# Altium footprint library alientek_sch_lib.PcbLib: 370 footprints (part 11 of 24)
Each footprint in its own frame and in the unit in brackets; x right, y up, seen from the top. Pads: shape width x height; smd on the part's side, far side on the other; paste and mask are expansions set on the pad; w line width, h text height; cw(c..) or ccw(c..) is an arc to the next point about the centre after c.
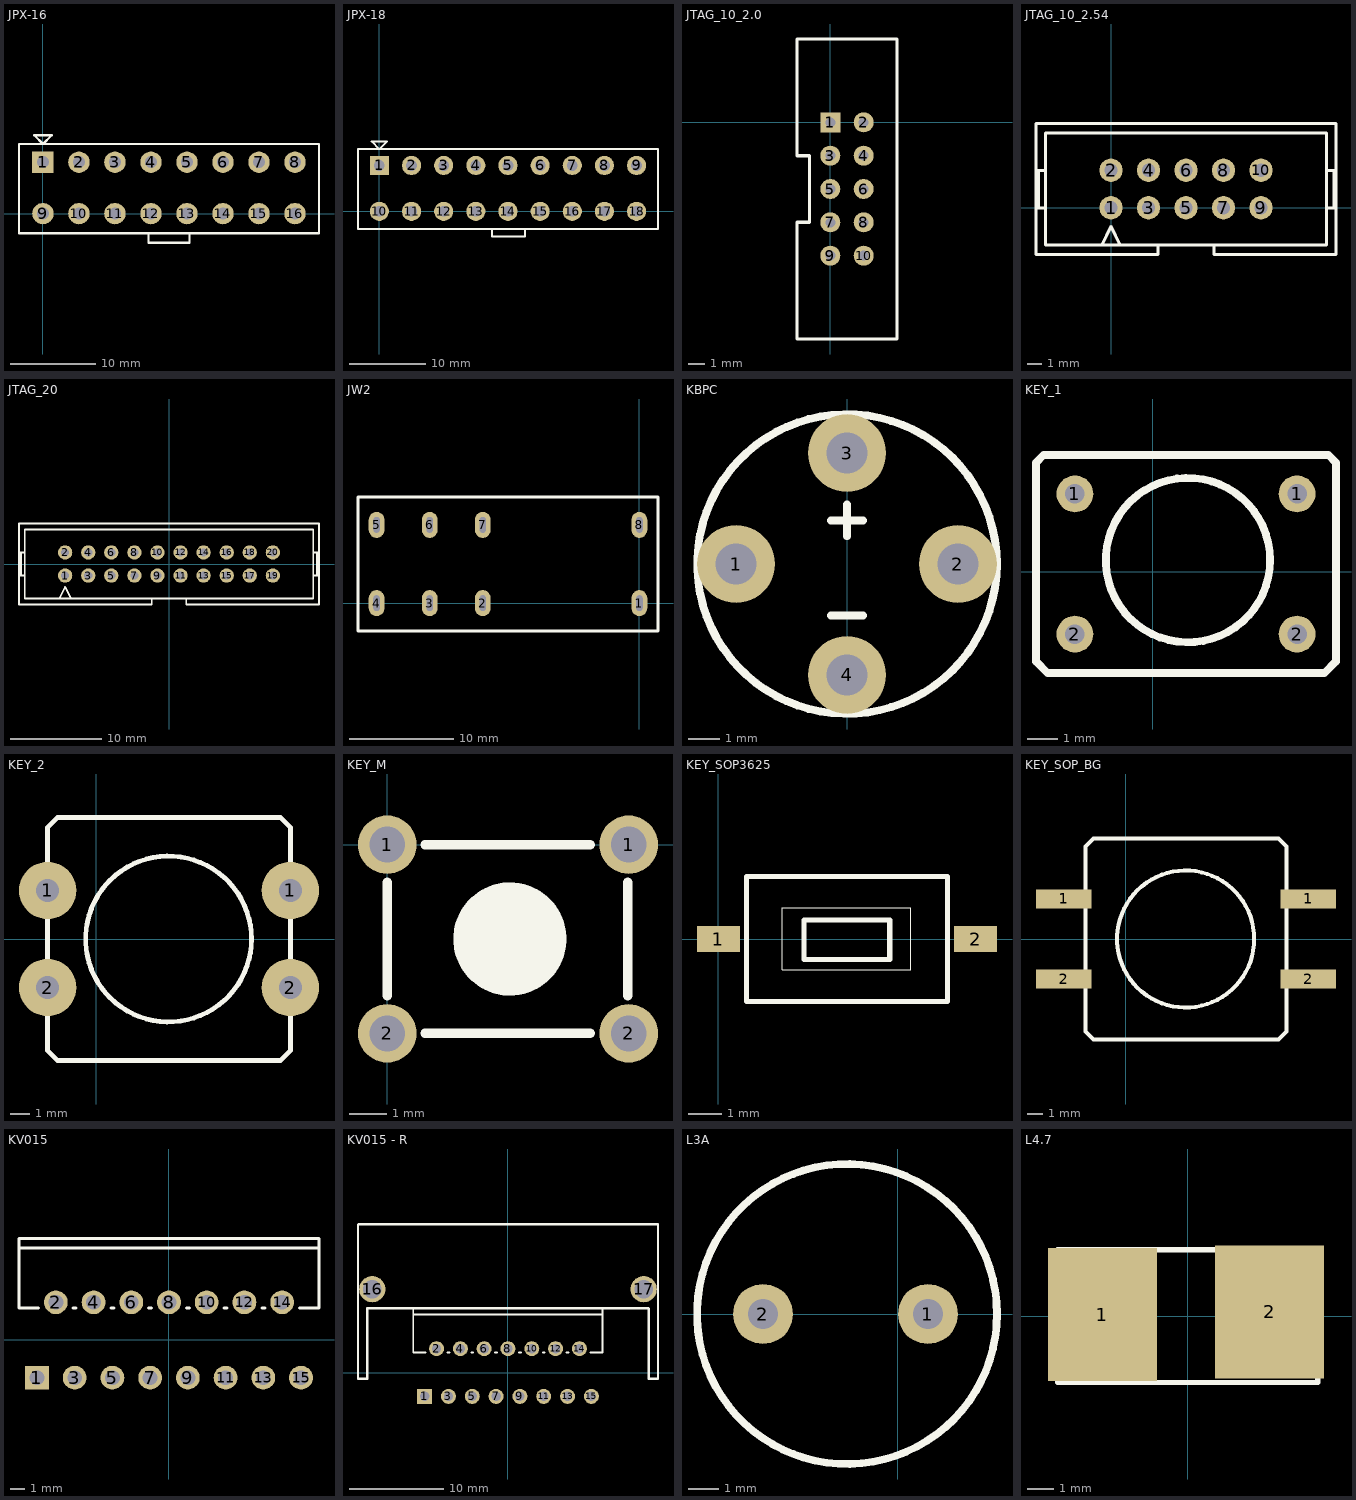
[diagram p10: the footprints below, top view; thin cyan lines are the x and y axes]

## JPX-16 [mm]
height 13
pads (16):
  rect 2.5x2.5 hole 1.4: 1(0,6)
  round 2.5 hole 1.4: 2(4.2,6) 3(8.4,6) 4(12.6,6) 5(16.8,6) 6(21,6) 7(25.2,6) 8(29.4,6) 9(0,0) 10(4.2,0) 11(8.4,0) 12(12.6,0) 13(16.8,0) 14(21,0) 15(25.2,0) 16(29.4,0)
Top Overlay:
  lines w0.254: 12.3,-3.4 17.1,-3.4 ; 12.3,-3.316 12.3,-2.3 ; 17.1,-3.316 17.1,-2.3 ; -2.794,-2.286 -2.794,8.128 32.2,8.128 32.2,-2.286 -2.794,-2.286 ; -1.016,9.144 1.016,9.144 0,8.128 -1.016,9.144

## JPX-18 [mm]
height 13
pads (18):
  rect 2.5x2.5 hole 1.4: 1(0,6)
  round 2.5 hole 1.4: 2(4.2,6) 3(8.4,6) 4(12.6,6) 5(16.8,6) 6(21,6) 7(25.2,6) 8(29.4,6) 9(33.6,6) 10(0,0) 11(4.2,0) 12(8.4,0) 13(12.6,0) 14(16.8,0) 15(21,0) 16(25.2,0) 17(29.4,0) 18(33.6,0)
Top Overlay:
  lines w0.254: 14.732,-2.286 14.732,-3.302 19.05,-3.302 19.05,-2.286 ; -2.794,-2.286 36.4,-2.286 36.4,8.128 -2.794,8.128 -2.794,-2.286 ; -1.016,9.144 0,8.128 1.016,9.144 -1.016,9.144

## JTAG_10_2.0 [mm] "2.0"
pads (10):
  rect 1.2x1.2 hole 0.6: 1(0,0)
  round 1.2 hole 0.6: 2(2,0) 3(0,-2) 4(2,-2) 5(0,-4) 6(2,-4) 7(0,-6) 8(2,-6) 9(0,-8) 10(2,-8)
Top Overlay:
  lines w0.2: -2,-13 -2,-6 -1.25,-6 -1.25,-2 -2,-2 -2,3.25 -2,5 4,5 4,-13 -2,-13

## JTAG_10_2.54 [mil] "JTAG,20PIN"
height 393.7
pads (10):
  round 62 hole 35: 1(0,0) 2(0,100) 3(100,0) 4(100,100) 5(200,0) 6(200,100) 7(300,0) 8(300,100) 9(400,0) 10(400,100)
Top Overlay:
  rectangle: 590,0 600,100
  rectangle: -200,0 -190,100
  lines w8: -175,0 -200,0 -200,100 -175,100 ; -25,-100 0,-50 25,-100 ; 125,-105 125,-125 -200,-125 -200,225 600,225 600,-125 275,-125 275,-100 ; 505,-100 575,-100 575,200 -175,200 -175,-100 375,-100 525,-100 ; 575,0 600,0 ; 575,100 600,100

## JTAG_20 [mil] "JTAG,20PIN"
height 393.7
pads (20):
  round 62 hole 35: 1(-450,-50) 2(-450,50) 3(-350,-50) 4(-350,50) 5(-250,-50) 6(-250,50) 7(-150,-50) 8(-150,50) 9(-50,-50) 10(-50,50) 11(50,-50) 12(50,50) 13(150,-50) 14(150,50) 15(250,-50) 16(250,50) 17(350,-50) 18(350,50) 19(450,-50) 20(450,50)
Top Overlay:
  lines w8: -650,-50 -625,-50 ; -650,50 -625,50 ; -641.67,-50 -641.67,50 ; -475,-150 -450,-100 -425,-150 ; -339.57,-175 -75,-175 -75,-150 ; -325,-175 -650,-175 -650,175 650,175 650,-175 325,-175 75,-175 75,-150 ; 625,-50 650,-50 ; 625,50 650,50 ; 641.67,-50 641.67,50 ; -75,-150 -625,-150 -625,150 625,150 625,-150 75,-150 ; -75,-150 75,-150

## JW2 [mm]
height 20
pads (8):
  oval 1.5x2.5 hole 0.6 slot 1.5 at 90 deg: 1(0,0) 2(-14.986,0) 3(-20.066,0) 4(-25.146,0) 5(-25.146,7.493) 6(-20.066,7.493) 7(-14.986,7.493) 8(0,7.493)
Top Overlay:
  lines w0.254: -26.924,-2.667 -26.924,10.16 1.778,10.16 1.778,-2.667 -26.797,-2.667

## KBPC [mm] "2W10"
height 5
pads (4):
  round 2.5 hole 1.3: 1(-3.556,12.7) 2(3.556,12.7) 3(0,16.256) 4(0,9.144)
Top Overlay:
  circle w0.254: c0,12.7 r4.8
  lines w0.254: -0.508,11.049 0.508,11.049 ; -0.508,14.097 0,14.097 0.508,14.097 ; 0,13.589 0,14.605

## KEY_1 [mm] "KEY?"
height 5
pads (4):
  round 1.2 hole 0.635: 1(-2.54,2.54) 1(4.699,2.54) 2(-2.54,-2.032) 2(4.699,-2.032)
Top Overlay:
  circle w0.254: c1.143,0.381 r2.679
  lines w0.254: -3.81,3.048 -3.81,3.556 -3.556,3.81 ; -3.81,3.302 -3.81,-2.921 -3.429,-3.302 5.588,-3.302 5.969,-2.921 5.969,3.556 5.715,3.81 -3.556,3.81 ; -2.921,3.81 -3.556,3.81

## KEY_2 [mm] "KEY?"
pads (4):
  round 3 hole 1.2: 1(-2.54,2.54) 1(10.16,2.54) 2(-2.54,-2.54) 2(10.16,-2.54)
Top Overlay:
  circle w0.254: c3.788,0 r4.34
  lines w0.254: 7.747,6.35 9.652,6.35 10.16,5.842 10.16,-5.842 9.652,-6.35 -2.032,-6.35 -2.54,-5.842 -2.54,5.842 -2.032,6.35 0.127,6.35 8.509,6.35

## KEY_M [mil] "KEY_MID"
pads (4):
  round 62 hole 38: 1(0,0) 1(255.91,0) 2(0,-200) 2(255.91,-200)
Top Overlay:
  circle w60: c130,-100 r30
  lines w10: -0.03,-160 -0.03,-40 ; 39.97,-200 215,-200 ; 39.97,0 215,0 ; 255,-160 255,-40

## KEY_SOP3625 [mm] "KEY,3mm*6mm*2.5mm"
height 2.5
pads (2):
  rect 1.3x0.8 smd: 1(0,0) 2(7.8,0)
Top Overlay:
  lines w0.025: 1.941,-0.938 1.941,0.942 5.827,0.942 5.827,-0.938 1.941,-0.938
  lines w0.152: 2.597,-0.623 5.197,-0.623 ; 2.597,-0.623 2.597,0.577 ; 2.597,-0.623 5.197,-0.623 ; 2.597,-0.623 2.597,0.577 ; 2.597,0.577 5.197,0.577 ; 2.597,0.577 5.197,0.577 ; 5.197,-0.623 5.197,0.577 ; 5.197,-0.623 5.197,0.577 ; 0.85,-1.9 0.85,0 0.85,1.9 6.95,1.9 6.95,-1.9 0.85,-1.9

## KEY_SOP_BG [mm] "KEY?"
height 5
pads (4):
  rect 3.5x1.2 smd: 1(-3.937,2.54) 1(11.557,2.54) 2(-3.937,-2.54) 2(11.557,-2.54)
Top Overlay:
  circle w0.254: c3.788,0 r4.34
  lines w0.254: 7.747,6.35 9.652,6.35 10.16,5.842 10.16,-5.842 9.652,-6.35 -2.032,-6.35 -2.54,-5.842 -2.54,5.842 -2.032,6.35 0.127,6.35 8.509,6.35

## KV015 [mm] "TO, Thru-Hole, Vertical, Heatsink Mounted; 15 Bent Staggered Leads; Pitch 1.27 mm"
height 21
pads (15):
  rect 1.6x1.6 hole 1: 1(-8.89,-2.54)
  round 1.6 hole 1: 2(-7.62,2.54) 3(-6.35,-2.54) 4(-5.08,2.54) 5(-3.81,-2.54) 6(-2.54,2.54) 7(-1.27,-2.54) 8(0,2.54) 9(1.27,-2.54) 10(2.54,2.54) 11(3.81,-2.54) 12(5.08,2.54) 13(6.35,-2.54) 14(7.62,2.54) 15(8.89,-2.54)
Top Overlay:
  lines w0.2: -10.1,6.19 10.1,6.19 ; -8.8,2.14 -10.1,2.14 -10.1,6.84 10.1,6.84 10.1,2.14 8.8,2.14 ; -6.45,2.14 -6.25,2.14 ; -3.91,2.14 -3.71,2.14 ; -1.37,2.14 -1.17,2.14 ; 1.17,2.14 1.37,2.14 ; 3.71,2.14 3.91,2.14 ; 6.25,2.14 6.45,2.14

## KV015 - R [mm] "TO, Thru-Hole, Vertical, Heatsink Mounted; 15 Bent Staggered Leads; Pitch 1.27 mm"
height 21
pads (17):
  rect 1.6x1.6 hole 1: 1(-8.89,-2.54)
  round 1.6 hole 1: 2(-7.62,2.54) 3(-6.35,-2.54) 4(-5.08,2.54) 5(-3.81,-2.54) 6(-2.54,2.54) 7(-1.27,-2.54) 8(0,2.54) 9(1.27,-2.54) 10(2.54,2.54) 11(3.81,-2.54) 12(5.08,2.54) 13(6.35,-2.54) 14(7.62,2.54) 15(8.89,-2.54)
  round 2.8 hole 2: 16(-14.478,8.89) 17(14.478,8.89)
Top Overlay:
  lines w0.2: -10.1,6.19 10.1,6.19 ; -8.8,2.14 -10.1,2.14 -10.1,6.84 10.1,6.84 10.1,2.14 8.8,2.14 ; -6.45,2.14 -6.25,2.14 ; -3.91,2.14 -3.71,2.14 ; -1.37,2.14 -1.17,2.14 ; 1.17,2.14 1.37,2.14 ; 3.71,2.14 3.91,2.14 ; 6.25,2.14 6.45,2.14
  lines w0.254: -16,15.779 -16,10.16 -16,6.84 -16,-0.66 -15,-0.66 -15,6.858 14.968,6.858 15.002,6.824 15.002,-0.66 16.002,-0.66 16.002,6.84 ; -15.953,15.826 -15.826,15.826 16.002,15.826 16.002,6.604

## L3A [mm] "10*13"
height 13
pads (2):
  round 2 hole 1: 1(1,0) 2(-4.5,0)
Top Overlay:
  circle w0.254: c-1.7,0 r5

## L4.7 [mm]
pads (2):
  rect 4.1x5 smd: 1(-3.216,0.054) 2(3.084,0.154)
Top Overlay:
  lines w0.2: -4.9,-2.5 4.9,-2.5 4.9,2.5 -4.9,2.5 -4.9,0 -4.9,-2.5